# EAGLE library part 1365-22 (library EW_Connectors)
DUAL ROW STRAIGHT HEADER 1364 SERIES. 1.27mm x 1.27mm. Without Fixing Post. SMT Source: http://www.leotronics.co.uk/Conexcon/Data%20Sheets/sec.%20A/1364ing.pdf
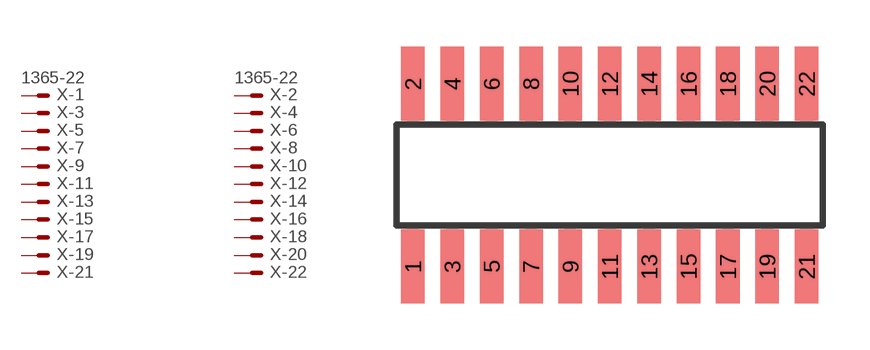
[diagram p77: symbol with the pads of 1365-22; footprint 1365-22]

Designator prefix X; gates -1=MVAL-6 -2=MVAL-6 -3=M-10 -4=M-10 -5=M-10 -6=M-10 -7=M-10 -8=M-10 -9=M-10 -10=M-10 -11=M-10 -12=M-10 -13=M-10 -14=M-10 -15=M-10 -16=M-10 -17=M-10 -18=M-10 -19=M-10 -20=M-10 -21=M-10 -22=M-10

## 1365-22 (OC_FARNELL: unknown; OC_NEWARK: unknown)  [1365-22]
1  -1:S  pas
2  -2:S  pas
3  -3:S  pas
4  -4:S  pas
5  -5:S  pas
6  -6:S  pas
7  -7:S  pas
8  -8:S  pas
9  -9:S  pas
10  -10:S  pas
11  -11:S  pas
12  -12:S  pas
13  -13:S  pas
14  -14:S  pas
15  -15:S  pas
16  -16:S  pas
17  -17:S  pas
18  -18:S  pas
19  -19:S  pas
20  -20:S  pas
21  -21:S  pas
22  -22:S  pas

## Footprint 1365-22 (pad centres in mm)
DUAL ROW STRAIGHT HEADER 1364 SERIES. 1.27mm x 1.27mm. Without Fixing Post. SMT Source: http://www.leotronics.co.uk/Conexcon/Data%20Sheets/sec.%20A/1364ing.pdf
smd 0.76 x 2.4: 1 -6.35,-2.95; 2 -6.35,2.95; 3 -5.08,-2.95; 4 -5.08,2.95; 5 -3.81,-2.95; 6 -3.81,2.95; 7 -2.54,-2.95; 8 -2.54,2.95; 9 -1.27,-2.95; 10 -1.27,2.95; 11 0,-2.95; 12 0,2.95; 13 1.27,-2.95; 14 1.27,2.95; 15 2.54,-2.95; 16 2.54,2.95; 17 3.81,-2.95; 18 3.81,2.95; 19 5.08,-2.95; 20 5.08,2.95; 21 6.35,-2.95; 22 6.35,2.95